# Altium footprint library 2020-06-19_11-14-03.PcbLib: 3 footprints
Each footprint in its own frame and in the unit in brackets; x right, y up, seen from the top. Pads: shape width x height; smd on the part's side, far side on the other; paste and mask are expansions set on the pad; w line width, h text height; cw(c..) or ccw(c..) is an arc to the next point about the centre after c.
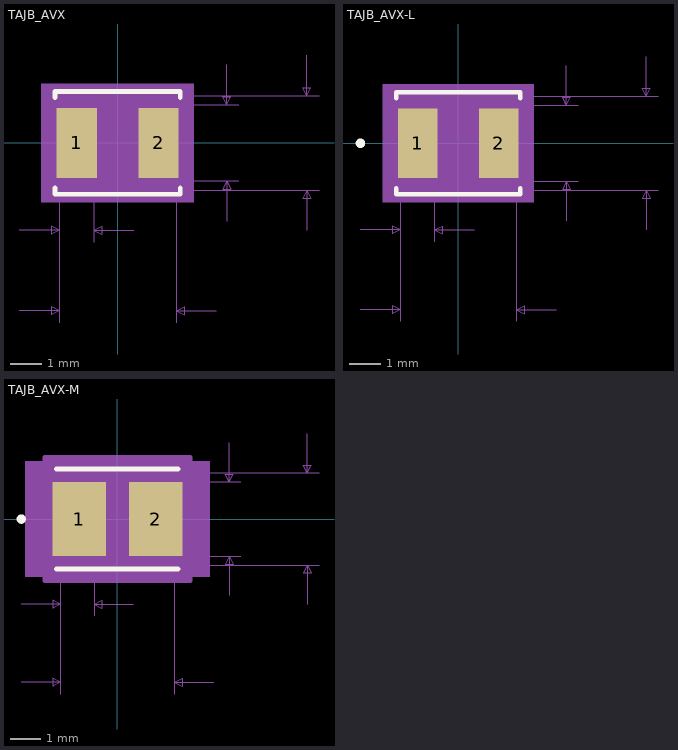
[diagram p0: the footprints below, top view; thin cyan lines are the x and y axes]

## TAJB_AVX [mil]
pads (2):
  rect 49.98x87 smd paste+0 mask+0: 1(-51.01,0) 2(51.01,0)
Top Overlay:
  lines w6: -78,-56.45 -78,-64 78,-64 78,-56.45 ; -78,56.45 -78,64 78,64 78,56.45
Mechanical 5:
  region: 95,-74 -95,-74 -95,74 95,74
Mechanical 7:
  lines w1: -123,-209 -73,-209 ; -123,-109 -73,-109 ; -73,-224 -73,0 -73,-124 ; -30,-124 -30,0 ; 20,-109 -30,-109 ; 73,-224 73,0 ; 86,-59 251,-59 ; 86,-47.5 151,-47.5 ; 86,47.5 151,47.5 ; 86,59 251,59 ; 123,-209 73,-209 ; 136,-97.5 136,-47.5 ; 136,97.5 136,47.5 ; 236,-109 236,-59 ; 236,109 236,59 ; -73,-209 -83,-204 -83,-214 -73,-209 ; -73,-109 -83,-104 -83,-114 -73,-109 ; -30,-109 -20,-104 -20,-114 -30,-109 ; 73,-209 83,-204 83,-214 73,-209 ; 136,-47.5 131,-57.5 141,-57.5 136,-47.5 ; 136,47.5 131,57.5 141,57.5 136,47.5 ; 236,-59 231,-69 241,-69 236,-59 ; 236,59 231,69 241,69 236,59
  text "Default Padstyle: RX49p98Y87D0T" at -387.5,-334 h50
  text "Alt 1 Padstyle: OX60Y90D30P" at -337.5,-409 h50
  text "Alt 2 Padstyle: OX90Y60D30P" at -337.5,-484 h50
  text "0.095in/2.413mm" at 156,-12.5 h25
  text "0.118in/2.997mm" at 256,-12.5 h25
  text "0.146in/3.708mm" at -93.75,-254 h25
  text "0.043in/1.092mm" at -145.25,-154 h25
Mechanical 13:
  circle w0: c-63,0 r0
  lines w1: -73,-59 73,-59 73,59 -73,59 -73,-59
Mechanical 15:
  region: -77,-47.5 -80,-47.5 -80,47.5 -77,47.5 -77,63 77,63 77,47.5 80,47.5 80,-47.5 77,-47.5 77,-63 -77,-63
  lines w6: -80,-47.5 -80,47.5 -77,47.5 -77,63 77,63 77,47.5 80,47.5 80,-47.5 77,-47.5 77,-63 -77,-63 -77,-47.5 -80,-47.5
3D body: height 10, standoff 0, extent 0,0 10,10

## TAJB_AVX-L [mil]
pads (2):
  rect 49.98x87 smd paste+0 mask+0: 1(-51.01,0) 2(51.01,0)
Top Overlay:
  circle w6: c-123,0 r3
  lines w6: -78,-56.45 -78,-64 78,-64 78,-56.45 ; -78,56.45 -78,64 78,64 78,56.45
Mechanical 5:
  region: 95,-74 -95,-74 -95,74 95,74
Mechanical 7:
  lines w1: -123,-209 -73,-209 ; -123,-109 -73,-109 ; -73,-224 -73,0 -73,-124 ; -30,-124 -30,0 ; 20,-109 -30,-109 ; 73,-224 73,0 ; 86,-59 251,-59 ; 86,-47.5 151,-47.5 ; 86,47.5 151,47.5 ; 86,59 251,59 ; 123,-209 73,-209 ; 136,-97.5 136,-47.5 ; 136,97.5 136,47.5 ; 236,-109 236,-59 ; 236,109 236,59 ; -73,-209 -83,-204 -83,-214 -73,-209 ; -73,-109 -83,-104 -83,-114 -73,-109 ; -30,-109 -20,-104 -20,-114 -30,-109 ; 73,-209 83,-204 83,-214 73,-209 ; 136,-47.5 131,-57.5 141,-57.5 136,-47.5 ; 136,47.5 131,57.5 141,57.5 136,47.5 ; 236,-59 231,-69 241,-69 236,-59 ; 236,59 231,69 241,69 236,59
  text "Default Padstyle: RX49p98Y87D0T" at -387.5,-334 h50
  text "Alt 1 Padstyle: OX60Y90D30P" at -337.5,-409 h50
  text "Alt 2 Padstyle: OX90Y60D30P" at -337.5,-484 h50
  text "0.095in/2.413mm" at 156,-12.5 h25
  text "0.118in/2.997mm" at 256,-12.5 h25
  text "0.146in/3.708mm" at -93.75,-254 h25
  text "0.043in/1.092mm" at -145.25,-154 h25
Mechanical 13:
  circle w0: c-63,0 r3
  lines w1: -73,-59 73,-59 73,59 -73,59 -73,-59
Mechanical 15:
  region: -77,-47.5 -80,-47.5 -80,47.5 -77,47.5 -77,63 77,63 77,47.5 80,47.5 80,-47.5 77,-47.5 77,-63 -77,-63
  lines w6: -80,-47.5 -80,47.5 -77,47.5 -77,63 77,63 77,47.5 80,47.5 80,-47.5 77,-47.5 77,-63 -77,-63 -77,-47.5 -80,-47.5
3D body: height 10, standoff 0, extent 0,0 10,10

## TAJB_AVX-M [mil]
pads (2):
  rect 68.44x95 smd paste+0 mask+0: 1(-48.78,0) 2(48.78,0)
Top Overlay:
  circle w6: c-123,0 r3
  lines w6: -78,-64 78,-64 ; -78,64 78,64
Mechanical 5:
  region: 118,-74 -118,-74 -118,74 118,74
Mechanical 7:
  lines w1: -123,-209 -73,-209 ; -123,-109 -73,-109 ; -73,-224 -73,0 -73,-124 ; -30,-124 -30,0 ; 20,-109 -30,-109 ; 73,-224 73,0 ; 93,-59 258,-59 ; 93,-47.5 158,-47.5 ; 93,47.5 158,47.5 ; 93,59 258,59 ; 123,-209 73,-209 ; 143,-97.5 143,-47.5 ; 143,97.5 143,47.5 ; 243,-109 243,-59 ; 243,109 243,59 ; -73,-209 -83,-204 -83,-214 -73,-209 ; -73,-109 -83,-104 -83,-114 -73,-109 ; -30,-109 -20,-104 -20,-114 -30,-109 ; 73,-209 83,-204 83,-214 73,-209 ; 143,-47.5 138,-57.5 148,-57.5 143,-47.5 ; 143,47.5 138,57.5 148,57.5 143,47.5 ; 243,-59 238,-69 248,-69 243,-59 ; 243,59 238,69 248,69 243,59
  text "Default Padstyle: RX68p44Y95D0T" at -387.5,-334 h50
  text "Alt 1 Padstyle: OX60Y90D30P" at -337.5,-409 h50
  text "Alt 2 Padstyle: OX90Y60D30P" at -337.5,-484 h50
  text "0.095in/2.413mm" at 163,-12.5 h25
  text "0.118in/2.997mm" at 263,-12.5 h25
  text "0.146in/3.708mm" at -93.75,-254 h25
  text "0.043in/1.092mm" at -145.25,-154 h25
Mechanical 13:
  circle w0: c-63,0 r3
  lines w1: -73,-59 73,-59 73,59 -73,59 -73,-59
Mechanical 15:
  region: -93,-67.5 -103,-67.5 -103,67.5 -93,67.5 -93,79 93,79 93,67.5 103,67.5 103,-67.5 93,-67.5 93,-79 -93,-79
  lines w6: -103,-67.5 -103,67.5 -93,67.5 -93,79 93,79 93,67.5 103,67.5 103,-67.5 93,-67.5 93,-79 -93,-79 -93,-67.5 -103,-67.5
3D body: height 10, standoff 0, extent 0,0 10,10